# EAGLE library part TJA1057 (library mylib)
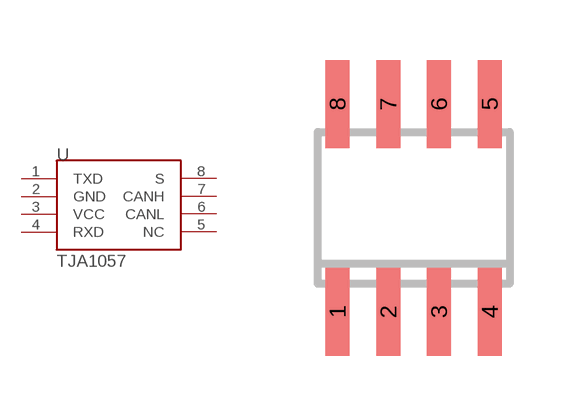
[diagram p1: symbol with the pads of SOT96-1; footprint SOT96-1]

Designator prefix -

## TJA1057  [SOT96-1]
1  TXD
2  GND
3  VCC
4  RXD
5  NC
6  CANL
7  CANH
8  S

## Footprint SOT96-1 (pad centres in mm)
Small Outline Narrow Plastic Gull Wing 150-mil body, package type SN
smd 0.6 x 2.2: 1 -1.905,-2.6; 2 -0.635,-2.6; 3 0.635,-2.6; 4 1.905,-2.6; 5 1.905,2.6; 6 0.635,2.6; 7 -0.635,2.6; 8 -1.905,2.6